# Altium schematic symbol library MB1S.SchLib: 1 symbol
Pins are listed as number, name and electrical type; pins without a type are passive.

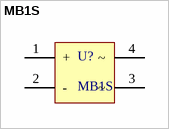
[diagram p0: symbol MB1S]

## MB1S
designator U?
BRIDGE RECT 1P 100V 500MA 4-SOIC; Manufacturer_Name: MCC; Manufacturer_Part_Number: MB1S-TP; Copyright: Copyright (C) 2025 Ultra Librarian. All rights reserved.; RefDes: RefDes; Type: Type
pins: 1 +, 2 -, 3 ~, 4 ~